# EAGLE library part MUSES72320 (library ic-JRC)
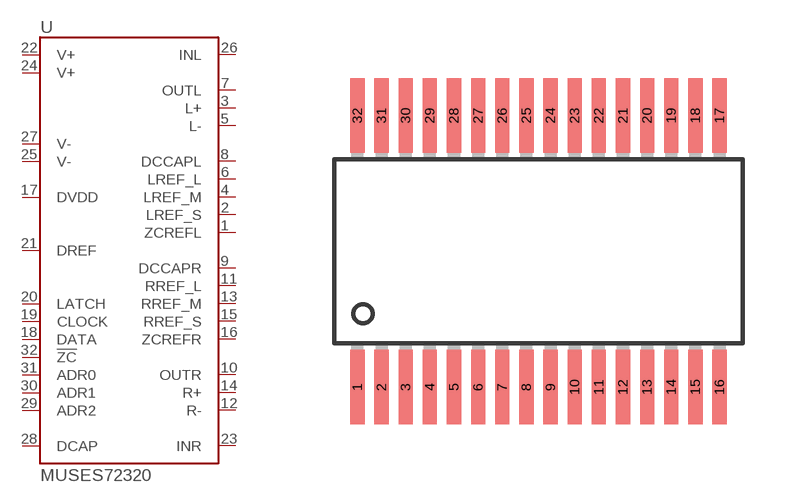
[diagram p0: symbol with the pads of SSOP32; footprint SSOP32]

Designator prefix U

## MUSES72320  [SSOP32]
1  ZCREFL
2  LREF_S
3  L+
4  LREF_M
5  L-
6  LREF_L
7  OUTL
8  DCCAPL
9  DCCAPR
10  OUTR
11  RREF_L
12  R-
13  RREF_M
14  R+
15  RREF_S
16  ZCREFR
17  DVDD
18  DATA
19  CLOCK
20  LATCH
21  DREF
22  V+
23  INR
24  V+
25  V-
26  INL
27  V-
28  DCAP
29  ADR2
30  ADR1
31  ADR0
32  !ZC

## Footprint SSOP32 (pad centres in mm)
smd 0.381 x 2: 1 -4.875,-3.656; 2 -4.225,-3.656; 3 -3.575,-3.656; 4 -2.925,-3.656; 5 -2.275,-3.656; 6 -1.625,-3.656; 7 -0.975,-3.656; 8 -0.325,-3.656; 9 0.325,-3.656; 10 0.975,-3.656; 11 1.625,-3.656; 12 2.275,-3.656; 13 2.925,-3.656; 14 3.575,-3.656; 15 4.225,-3.656; 16 4.875,-3.656; 17 4.875,3.656; 18 4.225,3.656; 19 3.575,3.656; 20 2.925,3.656; 21 2.275,3.656; 22 1.625,3.656; 23 0.975,3.656; 24 0.325,3.656; 25 -0.325,3.656; 26 -0.975,3.656; 27 -1.625,3.656; 28 -2.275,3.656; 29 -2.925,3.656; 30 -3.575,3.656; 31 -4.225,3.656; 32 -4.875,3.656